# Altium schematic symbol library Compilation.SchLib: 307 symbols (part 4 of 4)
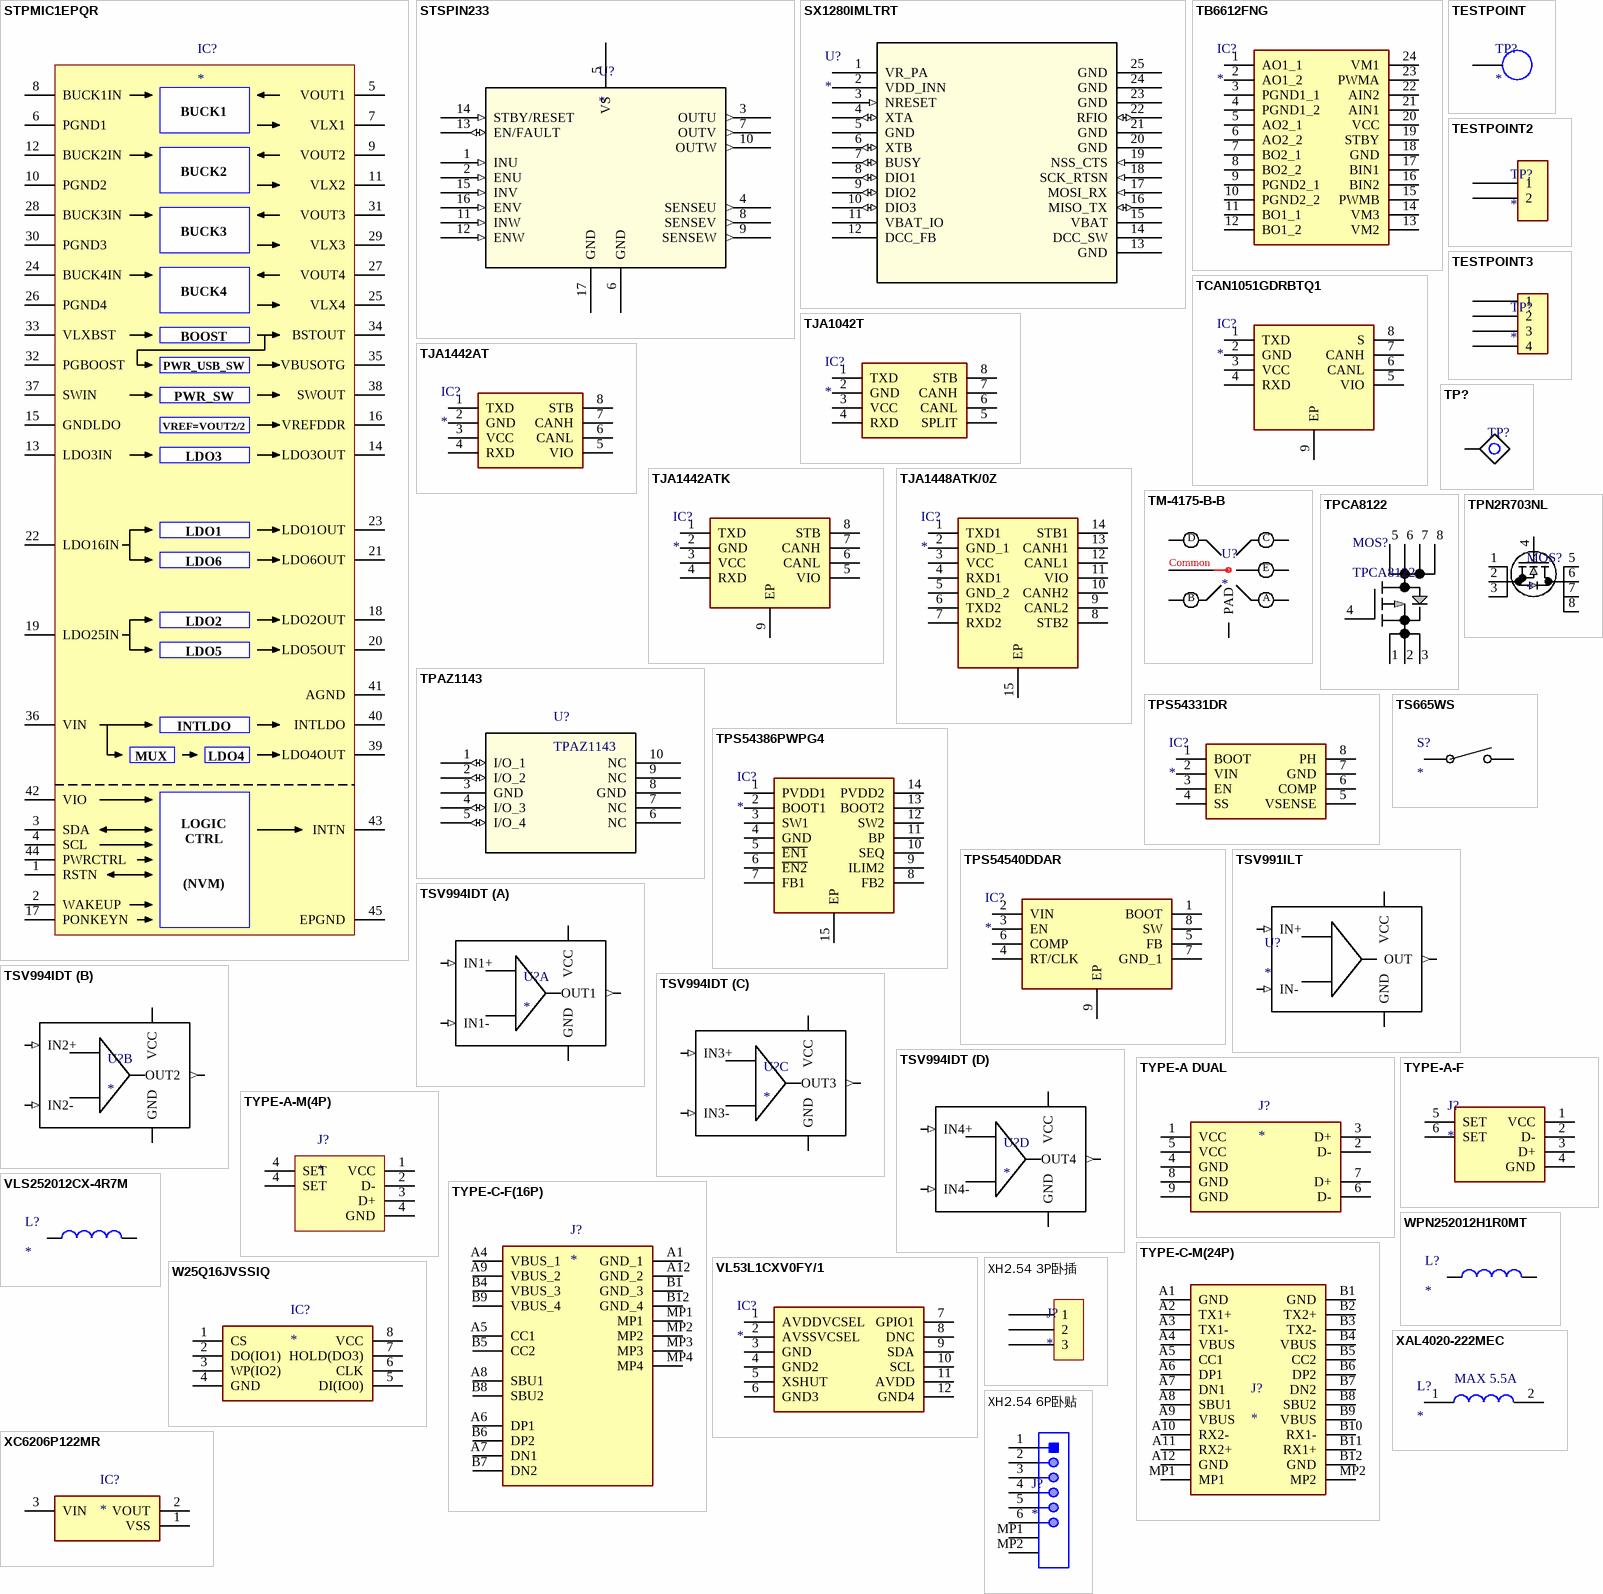
[diagram p20: symbols STPMIC1EPQR to XH2.54 6P卧贴]

## TJA1442AT
designator IC?
Integrated Circuit; Manufacturer_Name: NXP; Manufacturer_Part_Number: TJA1442AT/0Z; Datasheet Link: https://www.nxp.com/docs/en/data-sheet/TJR1442.pdf; Height: 1.75mm
footprint SOIC-8
pins: 1 TXD, 2 GND, 3 VCC, 4 RXD, 5 VIO, 6 CANL, 7 CANH, 8 STB

## TJA1442ATK
designator IC?
Integrated Circuit; Manufacturer_Name: NXP; Manufacturer_Part_Number: TJA1051TK/3,118; Datasheet Link: http://www.nxp.com/docs/en/data-sheet/TJA1051.pdf; Height: 1mm; Mouser Part Number: 771-TJA1051TK/3118; Mouser Price/Stock: https://www.mouser.co.uk/ProductDetail/NXP-Semiconductors/TJA1051TK-3118?qs=fhAOlxDPaYVrDQ2e4g%252BBJA%3D%3D; Arrow Part Number: TJA1051TK/3,118; Arrow Price/Stock: https://www.arrow.com/en/products/tja1051tk3118/nxp-semiconductors?region=nac
footprint TJA1442ATK
pins: 1 TXD, 2 GND, 3 VCC, 4 RXD, 5 VIO, 6 CANL, 7 CANH, 8 STB, 9 EP

## TJA1448ATK/0Z
designator IC?
Integrated Circuit; Manufacturer_Name: NXP; Manufacturer_Part_Number: TJA1448ATK/0Z; Datasheet Link: https://eu.mouser.com/datasheet/2/302/TJA1448-1949266.pdf; Height: 1mm
footprint HVSON14
pins: 1 TXD1, 2 GND_1, 3 VCC, 4 RXD1, 5 GND_2, 6 TXD2, 7 RXD2, 8 STB2, 9 CANL2, 10 CANH2, 11 VIO, 12 CANL1, 13 CANH1, 14 STB1, 15 EP

## TM-4175-B-B
designator U?
Switch
footprint TM-4175-B-B
pins: 1, 2, 3, 4, 5, 6, 7 PAD
text: D; C; Common; E; B; A

## TP?
designator TP?
TestPoint
footprint TESTPOINT4
pins: 1

## TPAZ1143
designator U?
ESD
footprint DFN10-2510
pins: 1 I/O_1 (io), 2 I/O_2 (io), 3 GND (power), 4 I/O_3 (io), 5 I/O_4 (io), 6 NC, 7 NC, 8 GND (power), 9 NC, 10 NC

## TPCA8122
designator MOS?
MOSFET P-ch; Manufacturer_Part_Number: TPCA8128; Vendor: Toshiba; Built_By: EMA_UL_Team; SourceLibrary: Toshiba_2019-12-10; Source_Package: PMOS_TPCA8128; Number_devices_in_Package: 1; Copyright: Copyright (C) 2018 Accelerated Designs. All rights reserved; RefDes: RefDes; Type: DEV
footprint TPCA8122 (MOSFET P-ch)
pins: 1 3, 2 7, 3 8, 4 2, 5 1, 6 4, 7 5, 8 6

## TPN2R703NL
designator MOS?
MOSFET N-ch
footprint TPN2R703NL
pins: 1 S, 2 S, 3 S, 4 G, 5 D, 6 D, 7 D, 8 D

## TPS54331DR
designator IC?
Integrated Circuit; Manufacturer_Name: Texas Instruments; Manufacturer_Part_Number: TPS54331DR; Datasheet Link: http://www.ti.com/lit/gpn/tps54331; Height: 1.75mm; Mouser Part Number: 595-TPS54331DR; Mouser Price/Stock: https://www.mouser.co.uk/ProductDetail/Texas-Instruments/TPS54331DR?qs=QyYHynRG50rsSYcB%2Ftz4Yw%3D%3D; Arrow Part Number: TPS54331DR; Arrow Price/Stock: https://www.arrow.com/en/products/tps54331dr/texas-instruments?region=nac
footprint SOIC-8
pins: 1 BOOT, 2 VIN, 3 EN, 4 SS, 5 VSENSE, 6 COMP, 7 GND, 8 PH

## TPS54386PWPG4
designator IC?
Integrated Circuit; Manufacturer_Name: Texas Instruments; Manufacturer_Part_Number: TPS54386PWPG4; Datasheet Link: https://www.ti.com/general/docs/suppproductinfo.tsp?distId=10&gotoUrl=https%3A%2F%2Fwww.ti.com%2Flit%2Fgpn%2Ftps54386; Height: 1.2mm; Mouser Part Number: 595-TPS54386PWPG4; Mouser Price/Stock: https://www.mouser.co.uk/ProductDetail/Texas-Instruments/TPS54386PWPG4?qs=WxFF5lh7QM0hz9kFR34EBg%3D%3D; Arrow Part Number: TPS54386PWPG4; Arrow Price/Stock: https://www.arrow.com/en/products/tps54386pwpg4/texas-instruments
footprint TPS54386PW
pins: 1 PVDD1, 2 BOOT1, 3 SW1, 4 GND, 5 ~{EN1}, 6 ~{EN2}, 7 FB1, 8 FB2, 9 ILIM2, 10 SEQ, 11 BP, 12 SW2, 13 BOOT2, 14 PVDD2, 15 EP

## TPS54540DDAR
designator IC?
Integrated Circuit; Manufacturer_Name: Texas Instruments; Manufacturer_Part_Number: TPS54540BQDDARQ1; Datasheet Link: http://www.ti.com/lit/gpn/tps54540b-q1; Height: 1.7mm; Mouser Part Number: 595-TPS54540BQDDARQ1; Mouser Price/Stock: https://www.mouser.co.uk/ProductDetail/Texas-Instruments/TPS54540BQDDARQ1?qs=Mv7BduZupUh5p%252BrvdCEqBg%3D%3D; Arrow Part Number: TPS54540BQDDARQ1; Arrow Price/Stock: https://www.arrow.com/en/products/tps54540bqddarq1/texas-instruments?region=nac
footprint TPS54540DDAR
pins: 1 BOOT, 2 VIN, 3 EN, 4 RT/CLK, 5 FB, 6 COMP, 7 GND_1, 8 SW, 9 EP

## TS665WS
designator S?
Switch
footprint TS665WS
pins: 1, 2

## TSV991ILT
designator U?
No Description Available; Mfr_Name: STMicroelectronics; RefDes: RefDes; Type: Type
footprint SOT23-5
pins: 1 OUT (out), 2 GND (power), 3 IN+ (in), 4 IN- (in), 5 VCC (power)

## TSV994IDT
designator U?
No Description Available; Mfr_Name: STMicroelectronics; RefDes: RefDes; Type: Type
footprint SOIC-14
part A pins: 1 OUT1 (out), 2 IN1- (in), 3 IN1+ (in), 4 VCC (power), 11 GND (power)
part B pins: 4 VCC (power), 5 IN2+ (in), 6 IN2- (in), 7 OUT2 (out), 11 GND (power)
part C pins: 4 VCC (power), 8 OUT3 (out), 9 IN3- (in), 10 IN3+ (in), 11 GND (power)
part D pins: 4 VCC (power), 11 GND (power), 12 IN4+ (in), 13 IN4- (in), 14 OUT4 (out)

## TYPE-A DUAL
designator J?
Connector; Manufacturer_Name: TE Connectivity; Manufacturer_Part_Number: 292303-7; Datasheet Link: https://www.te.com/commerce/DocumentDelivery/DDEController?Action=showdoc&DocId=Customer+Drawing%7F292303%7FE12%7Fpdf%7FEnglish%7FENG_CD_292303_E12.pdf%7F292303-7; Height: 7.01mm; Mouser Part Number: 571-292303-7; Mouser Price/Stock: https://www.mouser.co.uk/ProductDetail/TE-Connectivity/292303-7?qs=e6gk%2FTaAuqWZCg5WWmtijA%3D%3D; Arrow Part Number: 292303-7; Arrow Price/Stock: https://www.arrow.com/en/products/292303-7/te-connectivity
footprint TYPE-A DUAL
pins: 1 VCC, 2 D-, 3 D+, 4 GND, 5 VCC, 6 D-, 7 D+, 8 GND, 9 GND

## TYPE-A-F
designator J?
Connector; Manufacturer_Name: TE Connectivity; Manufacturer_Part_Number: 292303-7; Datasheet Link: https://www.te.com/commerce/DocumentDelivery/DDEController?Action=showdoc&DocId=Customer+Drawing%7F292303%7FE12%7Fpdf%7FEnglish%7FENG_CD_292303_E12.pdf%7F292303-7; Height: 7.01mm; Mouser Part Number: 571-292303-7; Mouser Price/Stock: https://www.mouser.co.uk/ProductDetail/TE-Connectivity/292303-7?qs=e6gk%2FTaAuqWZCg5WWmtijA%3D%3D; Arrow Part Number: 292303-7; Arrow Price/Stock: https://www.arrow.com/en/products/292303-7/te-connectivity
footprint TYPE-A-F(4P)
pins: 1 VCC, 2 D-, 3 D+, 4 GND, 5 SET, 6 SET

## TYPE-A-M(4P)
designator J?
Connector
footprint TYPE-A-M(4P)
pins: 1 VCC, 2 D-, 3 D+, 4 SET, 4 SET, 4 GND

## TYPE-C-F(16P)
designator J?
Connector; Manufacturer_Name: XUNPU; Manufacturer_Part_Number: TYPEC-304S-ACP16; Datasheet Link: https://datasheet.lcsc.com/szlcsc/2008152133_XUNPU-TYPEC-304S-ACP16_C720630.pdf; Height: 3.21mm
footprint TYPE-C-F(16P)
pins: A1 GND_1, A4 VBUS_1, A5 CC1, A6 DP1, A7 DN1, A8 SBU1, A9 VBUS_2, A12 GND_2, B1 GND_3, B4 VBUS_3, B5 CC2, B6 DP2, B7 DN2, B8 SBU2, B9 VBUS_4, B12 GND_4, MP1, MP2, MP3, MP4

## TYPE-C-M(24P)
designator J?
Connector
footprint TYPE-C-M(24P)
pins: A1 GND, A2 TX1+, A3 TX1-, A4 VBUS, A5 CC1, A6 DP1, A7 DN1, A8 SBU1, A9 VBUS, A10 RX2-, A11 RX2+, A12 GND, B1 GND, B2 TX2+, B3 TX2-, B4 VBUS, B5 CC2, B6 DP2, B7 DN2, B8 SBU2, B9 VBUS, B10 RX1-, B11 RX1+, B12 GND, MP1, MP2

## VL53L1CXV0FY/1
designator IC?
Integrated Circuit; Manufacturer_Name: STMicroelectronics; Manufacturer_Part_Number: VL53L1CXV0FY/1; Datasheet Link: https://componentsearchengine.com/Datasheets/1/VL53L1CXV0FY_1.pdf; Height: 1mm; Mouser Part Number: 511-VL53L1CXV0FY/1; Mouser Price/Stock: https://www.mouser.co.uk/ProductDetail/STMicroelectronics/VL53L1CXV0FY-1?qs=W0yvOO0ixfFQE5v5L6h6PA%3D%3D; Arrow Part Number: VL53L1CXV0FY/1; Arrow Price/Stock: https://www.arrow.com/en/products/vl53l1cxv0fy1/stmicroelectronics?region=europe
footprint VL53L1CX
pins: 1 AVDDVCSEL, 2 AVSSVCSEL, 3 GND, 4 GND2, 5 XSHUT, 6 GND3, 7 GPIO1, 8 DNC, 9 SDA, 10 SCL, 11 AVDD, 12 GND4

## VLS252012CX-4R7M
designator L?
Inductor; Manufacturer_Name: TDK; Manufacturer_Part_Number: VLS252012CX-4R7M; Datasheet Link: https://product.tdk.com/system/files/dam/doc/product/inductor/inductor/smd/catalog/inductor_commercial_power_vls252012cx_en.pdf; Mouser Part Number: 810-VLS252012CX-4R7M; Mouser Price/Stock: https://www.mouser.com/Search/Refine.aspx?Keyword=810-VLS252012CX-4R7M; Arrow Part Number: VLS252012CX-4R7M; Arrow Price/Stock: https://www.arrow.com/en/products/vls252012cx-4r7m/tdk
footprint VLS2520
pins: 1, 2

## W25Q16JVSSIQ
designator IC?
NOR FLASH; Manufacturer_Name: Texas Instruments; Manufacturer_Part_Number: INA219BID; Datasheet Link: http://www.ti.com/lit/gpn/INA219; Height: 1.75mm; Mouser Part Number: 595-INA219BID; Mouser Price/Stock: https://www.mouser.co.uk/ProductDetail/Texas-Instruments/INA219BID?qs=1WmUhT%2FVMIOEOZ2ZxHP1Nw%3D%3D; Arrow Part Number: INA219BID; Arrow Price/Stock: https://www.arrow.com/en/products/ina219bid/texas-instruments?region=nac
footprint SOIC-8
pins: 1 CS, 2 DO(IO1), 3 WP(IO2), 4 GND, 5 DI(IO0), 6 CLK, 7 HOLD(DO3), 8 VCC

## WPN252012H1R0MT
designator L?
Inductor; Manufacturer_Name: SUNLORD; Manufacturer_Part_Number: WPN252012H1R0MT; Datasheet Link: https://datasheet.lcsc.com/szlcsc/Sunlord-WPN252012H1R0MT_C98348.pdf; Height: 1.2mm
footprint WPN252012H1R0MT
pins: 1, 2

## XAL4020-222MEC
designator L?
Inductor; Manufacturer_Name: COILCRAFT; Manufacturer_Part_Number: XAL4020-222MEB; Datasheet Link: http://www.coilcraft.com/pdfs/xal4000.pdf; Height: 2.1mm; Mouser Part Number: 994-XAL4020-222MEB; Mouser Price/Stock: https://www.mouser.co.uk/ProductDetail/Coilcraft/XAL4020-222MEB/?qs=VJjuEbE9QBOpgK2Se6TQVQ%3D%3D
footprint XAL4020
pins: 1, 2
text: MAX 5.5A

## XC6206P122MR
designator IC?
Integrated Circuit; Manufacturer_Name: Torex; Manufacturer_Part_Number: XC6206P122MR-G; Datasheet Link: https://www.torexsemi.com/file/xc6206/XC6206.pdf; Height: 1.3mm; Mouser Part Number: 865-XC6206P122MR-G; Mouser Price/Stock: https://www.mouser.co.uk/ProductDetail/Torex-Semiconductor/XC6206P122MR-G?qs=AsjdqWjXhJ%2F35%2FU%2FZk2JYg%3D%3D
footprint XC6206P122MR
pins: 1 VSS, 2 VOUT, 3 VIN

## XH2.54 3P卧插
designator J?
XH2.54
footprint XH2.54 3P卧插
pins: 1, 2, 3

## XH2.54 6P卧贴
designator J?
XH2.54
footprint XH2.54 6P卧贴 (长：20mm，宽：8mm，高：6.1mm)
pins: 1, 2, 3, 4, 5, 6, MP1, MP2

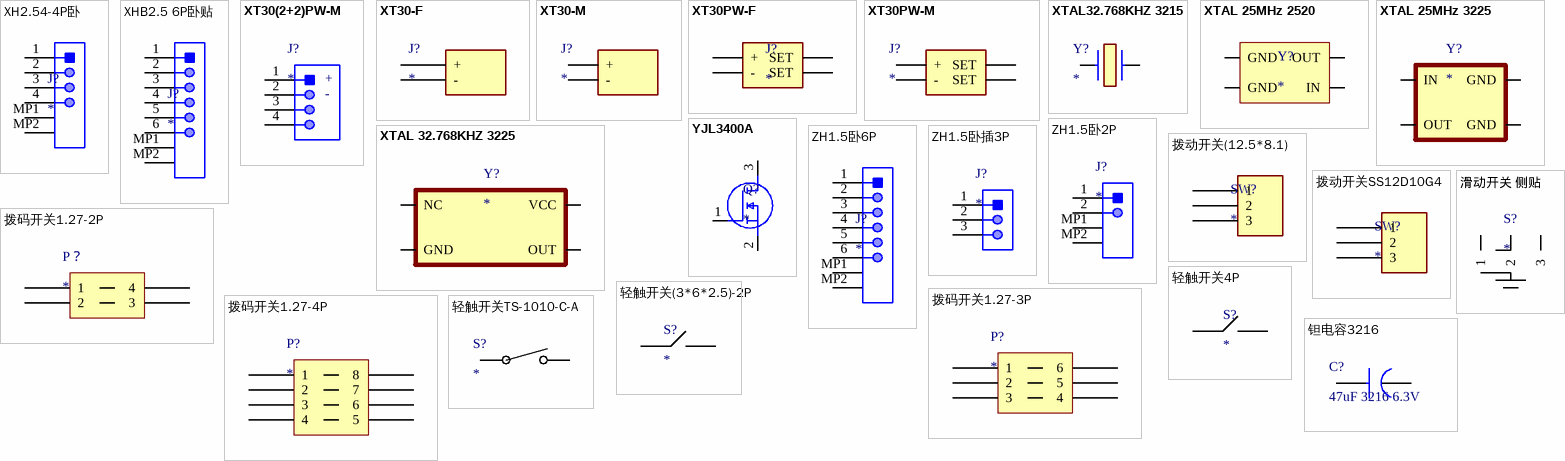
[diagram p17: symbols XH2.54-4P卧 to 钽电容3216]

## XH2.54-4P卧
designator J?
XH2.54
footprint XH2.54-4P卧
pins: 1, 2, 3, 4, MP1, MP2

## XHB2.5 6P卧贴
designator J?
XHB2.5
footprint XHB2.5 6P卧贴
pins: 1, 2, 3, 4, 5, 6, MP1, MP2

## XT30(2+2)PW-M
designator J?
Connector; Manufacturer: AMASS; Part Number: XT30PW-M; Manufacturer URL: http://www.china-amass.com
footprint XT30(2+2)PW-M
pins: 1, 2, 3, 4
text: +; -

## XT30-F
designator J?
Connector
footprint XT30-F
pins: 1 +, 2 -

## XT30-M
designator J?
Connector; Manufacturer_Name: Amass; Manufacturer_Part_Number: XT30PB; Datasheet Link: https://www.tme.eu/Document/4acc913878197f8c2e30d4b8cdc47230/XT30UPB%20SPEC.pdf; Height: 10.7mm
footprint XT30-M
pins: 1 +, 2 -

## XT30PW-F
designator J?
Connetor
footprint XT30PW-F
pins: 1 +, 2 -, 3 SET, 4 SET

## XT30PW-M
designator J?
Connector; Manufacturer_Name: Amass; Manufacturer_Part_Number: XT30PW-M; Datasheet Link: https://www.tme.eu/sl/Document/ce4077e36b79046da520ca73227e15de/XT30PW%20SPEC.pdf; Height: 5mm
footprint XT30PW-M
pins: 1 +, 2 -, 3 SET, 4 SET

## XTAL32.768KHZ 3215
designator Y?
Crystal or Oscillator; Manufacturer_Name: AVX; Manufacturer_Part_Number: ST3215SB32768H5HPWAA; Datasheet Link: https://datasheet.datasheetarchive.com/originals/distributors/Datasheets_SAMA/cf533c496a83e0fca04715458ae280ec.pdf; Height: 0.9mm; Mouser Part Number: N/A; Mouser Price/Stock: https://www.mouser.co.uk/ProductDetail/AVX/ST3215SB32768H5HPWAA?qs=OlC7AqGiEDnmK0SKwSxB8A%3D%3D; Arrow Part Number: ST3215SB32768H5HPWAA; Arrow Price/Stock: https://www.arrow.com/en/products/st3215sb32768h5hpwaa/avx
footprint XTAL32.768KHZ 3215
pins: 1, 2 CRYSTAL__2

## XTAL 25MHz 2520
designator Y?
Crystal or Oscillator; Manufacturer_Name: NDK; Manufacturer_Part_Number: NZ2520SB-25.600MHZ; Datasheet Link: https://media.digikey.com/PDF/Data%20Sheets/NDK%20PDFs/NZ2520SB.pdf; Height: 0.9mm; Mouser Part Number: N/A; Mouser Price/Stock: https://www.mouser.com/Search/Refine.aspx?Keyword=N%2FA
footprint XTAL 2520
pins: 1 IN, 2 GND, 3 OUT, 4 GND

## XTAL 25MHz 3225
designator Y?
Crystal or Oscillator; Manufacturer_Name: ABRACON; Manufacturer_Part_Number: ABM8AIG-25.000MHZ-12-2Z-T3; Datasheet Link: https://abracon.com/AIGcrystals/ABM8AIG.pdf; Height: 0.8mm; Mouser Part Number: 815-M8AIG-25-12-2ZT3; Mouser Price/Stock: https://www.mouser.co.uk/ProductDetail/ABRACON/ABM8AIG-25000MHZ-12-2Z-T3?qs=gG6m684uYP75Fd4ygmfcRQ%3D%3D; Arrow Part Number: ABM8AIG-25.000MHZ-12-2Z-T3; Arrow Price/Stock: https://www.arrow.com/en/products/abm8aig25.000mhz122zt3/abracon
footprint XTAL 3225
pins: 1 IN, 2 GND, 3 OUT, 4 GND

## XTAL 32.768KHZ 3225
designator Y?
Crystal or Oscillator
footprint XTAL 3225
pins: 1 NC, 2 GND, 3 OUT, 4 VCC

## YJL3400A
designator Q?
MOS
footprint YJL3400A
pins: 1 G, 2 S, 3 D

## ZH1.5卧2P
designator J?
ZH1.5 Connector; Manufacturer: JST; No of Positions: 2; Pitch: 1.25mm; Style/Orientation: RightAngleHeader/Plug; Package Reference: SM02B-GHS-TB; Type: WiretoBoard; Datasheet URL: http://www.jst-mfg.com/product/pdf/eng/eGH.pdf; Termination: Crimp; Manufacturer URL: http://www.jst.com/home2.html; Mounting Technology: SurfaceMount; Datasheet Version: 05/2016; Package Description: GH Disconnectable Crimp Style Connector, Pitch 1.25 mm, 1 x 2 Position, Height 4.25 mm
footprint ZH1.5卧2P (长：4.5，宽：4.5，高：3.6)
pins: 1, 2, MP1, MP2

## ZH1.5卧6P
designator J?
ZH1.5 Connector
footprint ZH1.5卧6p
pins: 1, 2, 3, 4, 5, 6, MP1, MP2

## ZH1.5卧插3P
designator J?
ZH1.5 Connector; Manufacturer: JST; No of Positions: 2; Pitch: 1.25mm; Style/Orientation: RightAngleHeader/Plug; Package Reference: SM02B-GHS-TB; Type: WiretoBoard; Datasheet URL: http://www.jst-mfg.com/product/pdf/eng/eGH.pdf; Termination: Crimp; Manufacturer URL: http://www.jst.com/home2.html; Mounting Technology: SurfaceMount; Datasheet Version: 05/2016; Package Description: GH Disconnectable Crimp Style Connector, Pitch 1.25 mm, 1 x 2 Position, Height 4.25 mm
footprint ZH1.5卧插3P (长：6.0，宽：4.5，高：3.6)
pins: 1, 2, 3

## 拨动开关(12.5*8.1)
designator SW?
Switch
footprint 拨动开关(12.5*8.1)
pins: 1, 2, 3

## 拨动开关SS12D10G4
designator SW?
Switch
footprint SS-12D10
pins: 1, 2, 3

## 拨码开关1.27-2P
designator P？
Switch
footprint 拨码开关1.27-2P (长：4.14mm，宽：5.4mm，高：2.3mm)
pins: 1, 2, 3, 4

## 拨码开关1.27-3P
designator P?
Switch
footprint 拨码开关1.27-3P (长：5.41mm，宽：5.4mm，高：2.3mm)
pins: 1, 2, 3, 4, 5, 6

## 拨码开关1.27-4P
designator P?
Switch
footprint 拨码开关1.27-4P (长：6.68mm，宽：5.4mm，高：2.3mm)
pins: 1, 2, 3, 4, 5, 6, 7, 8

## 滑动开关 侧贴
designator S?
Switch
footprint 滑动开关 侧贴
pins: 1, 2, 3, 4

## 轻触开关4P
designator S?
Switch; Manufacturer_Name: C & K COMPONENTS; Manufacturer_Part_Number: PTS810 SJG 250 SMTR LFS; Datasheet Link: https://componentsearchengine.com/Datasheets/1/PTS810 SJG 250 SMTR LFS.pdf; Height: 2.7mm; Mouser Part Number: 611-PTS810SJG250SMTR; Mouser Price/Stock: https://www.mouser.com/Search/Refine.aspx?Keyword=611-PTS810SJG250SMTR; Arrow Part Number: PTS810 SJG 250 SMTR LFS; Arrow Price/Stock: https://www.arrow.com/en/products/pts810sjg250smtrlfs/ck?region=europe
footprint 轻触开关4P
pins: 1, 3

## 轻触开关(3*6*2.5)-2P
designator S?
Switch
footprint 轻触开关(3*6*2.5)-2P
pins: 1, 2

## 轻触开关TS-1010-C-A
designator S?
Switch
footprint 轻触开关(2*4*3.5) TS-1010-C-A
pins: 1, 2

## 钽电容3216
designator C?, comment 47uF 3216 6.3V
Capacitor
footprint 钽电容3216
pins: 1, 2